# Altium schematic symbol library SchematicLib.SchLib: 2 symbols
Pins are listed as number, name and electrical type; pins without a type are passive.

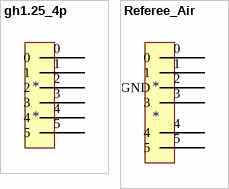
[diagram p0: symbols gh1.25_4p to Referee_Air]

## gh1.25_4p
designator *
footprint GH1.25-LS-4P (A1257WR-S-4P)
footprint M8 Connector (Footprint not found)
pins: 0, 1, 2, 3, 4, 5

## Referee_Air
designator *
footprint M8 Connector
pins: 0, 1, 2 GND, 3, 4, 5